# EAGLE library part ADXL345BCCZ (library mh_ADXL345BCCZ)
IC, ACCELEROMETER, 3AXIS
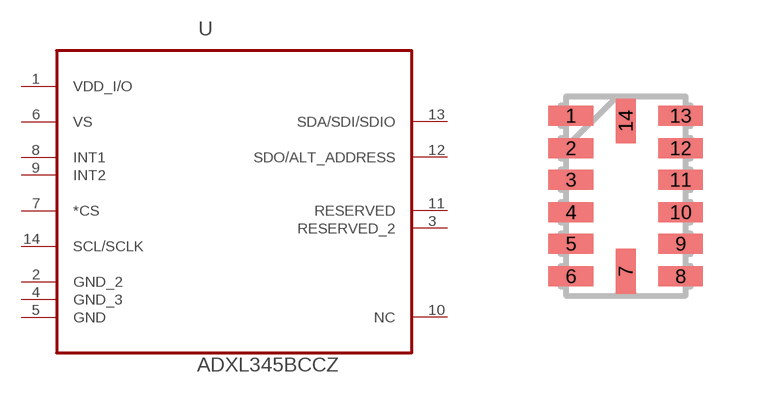
[diagram p0: symbol with the pads of LGA14R80P3X6_300X500X100; footprint LGA14R80P3X6_300X500X100]

Designator prefix U

## ADXL345BCCZ (MPN: ADXL345BCCZ; OC_FARNELL: 1853935; OC_NEWARK: 04R8114; PACKAGE: 14-Terminal Land Grid Array [LGA]; SUPPLIER: Analog Devices)  [LGA14R80P3X6_300X500X100]
1  VDD_I/O  pas
2  GND_2  pas
3  RESERVED_2  pas
4  GND_3  pas
5  GND  pas
6  VS  pas
7  *CS  pas
8  INT1  pas
9  INT2  pas
10  NC  pas
11  RESERVED  pas
12  SDO/ALT_ADDRESS  pas
13  SDA/SDI/SDIO  pas
14  SCL/SCLK  pas

## Footprint LGA14R80P3X6_300X500X100 (pad centres in mm)
smd 1.118 x 0.508: 1 -1.372,2.007; 2 -1.372,1.194; 3 -1.372,0.406; 4 -1.372,-0.406; 5 -1.372,-1.194; 6 -1.372,-2.007; 8 1.372,-2.007; 9 1.372,-1.194; 10 1.372,-0.406; 11 1.372,0.406; 12 1.372,1.194; 13 1.372,2.007
smd 0.508 x 1.118: 7 0,-1.88; 14 0,1.88